# Altium footprint library HMC833.PcbLib: 1 footprints
Each footprint in its own frame and in the unit in brackets; x right, y up, seen from the top. Pads: shape width x height; smd on the part's side, far side on the other; paste and mask are expansions set on the pad; w line width, h text height; cw(c..) or ccw(c..) is an arc to the next point about the centre after c.
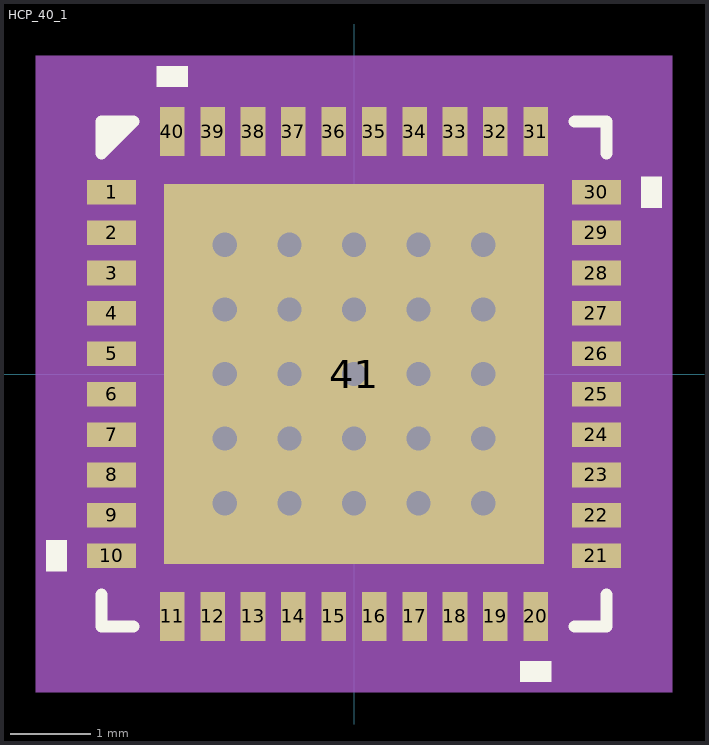
[diagram p0: the footprint, top view; thin cyan lines are the x and y axes]

## HCP_40_1 [mm]
pads (41):
  rect 0.605x0.305 smd: 1(-3.002,2.25) 2(-3.002,1.75) 3(-3.002,1.25) 4(-3.002,0.75) 5(-3.002,0.25) 6(-3.002,-0.25) 7(-3.002,-0.75) 8(-3.002,-1.25) 9(-3.002,-1.75) 10(-3.002,-2.25) 21(3.002,-2.25) 22(3.002,-1.75) 23(3.002,-1.25) 24(3.002,-0.75) 25(3.002,-0.25) 26(3.002,0.25) 27(3.002,0.75) 28(3.002,1.25) 29(3.002,1.75) 30(3.002,2.25)
  rect 0.305x0.605 smd: 11(-2.25,-3.002) 12(-1.75,-3.002) 13(-1.25,-3.002) 14(-0.75,-3.002) 15(-0.25,-3.002) 16(0.25,-3.002) 17(0.75,-3.002) 18(1.25,-3.002) 19(1.75,-3.002) 20(2.25,-3.002) 31(2.25,3.002) 32(1.75,3.002) 33(1.25,3.002) 34(0.75,3.002) 35(0.25,3.002) 36(-0.25,3.002) 37(-0.75,3.002) 38(-1.25,3.002) 39(-1.75,3.002) 40(-2.25,3.002)
  rect 4.7x4.7 smd paste-2.337: 41(0,0)
via 1.6,-1.6 diameter 0.6 hole 0.3
via 1.6,-0.8 diameter 0.6 hole 0.3
via 1.6,0.8 diameter 0.6 hole 0.3
via 1.6,0 diameter 0.6 hole 0.3
via 1.6,1.6 diameter 0.6 hole 0.3
via 0.8,1.6 diameter 0.6 hole 0.3
via 0.8,0 diameter 0.6 hole 0.3
via 0.8,0.8 diameter 0.6 hole 0.3
via 0,-0.8 diameter 0.6 hole 0.3
via 0.8,-0.8 diameter 0.6 hole 0.3
via 0,-1.6 diameter 0.6 hole 0.3
via 0.8,-1.6 diameter 0.6 hole 0.3
via -0.8,-1.6 diameter 0.6 hole 0.3
via -1.6,-1.6 diameter 0.6 hole 0.3
via -0.8,-0.8 diameter 0.6 hole 0.3
via -1.6,-0.8 diameter 0.6 hole 0.3
via -1.6,1.6 diameter 0.6 hole 0.3
via -0.8,1.6 diameter 0.6 hole 0.3
via 0,1.6 diameter 0.6 hole 0.3
via -1.6,0.8 diameter 0.6 hole 0.3
via -0.8,0.8 diameter 0.6 hole 0.3
via 0,0.8 diameter 0.6 hole 0.3
via -1.6,0 diameter 0.6 hole 0.3
via -0.8,0 diameter 0.6 hole 0.3
via 0,0 diameter 0.6 hole 0.3
Top Overlay:
  region: -3.127,3.127 -3.127,2.735 -2.735,3.127
  region: -2.06,3.559 -2.441,3.559 -2.441,3.813 -2.06,3.813
  region: 3.559,2.441 3.813,2.441 3.813,2.06 3.559,2.06
  region: 2.441,-3.559 2.06,-3.559 2.06,-3.813 2.441,-3.813
  region: -3.559,-2.06 -3.813,-2.06 -3.813,-2.441 -3.559,-2.441
  lines w0.152: -3.127,-2.735 -3.127,-3.127 -2.735,-3.127 ; 2.735,-3.127 3.127,-3.127 3.127,-2.735 ; 2.735,3.127 3.127,3.127 3.127,2.735 ; -3.127,2.735 -2.735,3.127 -3.127,3.127 -3.127,2.735
Top Paste:
  region: 2.25,-0.883 0.883,-0.883 0.883,-2.25 2.25,-2.25
  region: 2.25,0.683 0.883,0.683 0.883,-0.683 2.25,-0.683
  region: 2.25,2.25 0.883,2.25 0.883,0.883 2.25,0.883
  region: 0.683,-0.883 -0.683,-0.883 -0.683,-2.25 0.683,-2.25
  region: 0.683,0.683 -0.683,0.683 -0.683,-0.683 0.683,-0.683
  region: 0.683,2.25 -0.683,2.25 -0.683,0.883 0.683,0.883
  region: -0.883,-0.883 -2.25,-0.883 -2.25,-2.25 -0.883,-2.25
  region: -0.883,0.683 -2.25,0.683 -2.25,-0.683 -0.883,-0.683
  region: -0.883,2.25 -2.25,2.25 -2.25,0.883 -0.883,0.883
Mechanical 5:
  region: 3.94,-3.94 -3.94,-3.94 -3.94,3.94 3.94,3.94
Mechanical 13:
  lines w0.025: -3,1.73 -1.73,3 ; -3,-3 -3,3 3,3 3,-3 -3,-3 ; -3,-2.402 -3,-2.098 -3,-2.402 ; -3,-1.902 -3,-1.598 -3,-1.902 ; -3,-1.402 -3,-1.098 -3,-1.402 ; -3,-0.902 -3,-0.598 -3,-0.902 ; -3,-0.402 -3,-0.098 -3,-0.402 ; -3,0.098 -3,0.402 -3,0.098 ; -3,0.598 -3,0.902 -3,0.598 ; -3,1.098 -3,1.402 -3,1.098 ; -3,1.598 -3,1.902 -3,1.598 ; -3,2.098 -3,2.402 -3,2.098 ; -2.402,-3 -2.098,-3 -2.402,-3 ; -2.402,3 -2.098,3 -2.402,3 ; -1.902,-3 -1.598,-3 -1.902,-3 ; -1.902,3 -1.598,3 -1.902,3 ; -1.402,-3 -1.098,-3 -1.402,-3 ; -1.402,3 -1.098,3 -1.402,3 ; -0.902,-3 -0.598,-3 -0.902,-3 ; -0.902,3 -0.598,3 -0.902,3 ; -0.402,-3 -0.098,-3 -0.402,-3 ; -0.402,3 -0.098,3 -0.402,3 ; 0.098,-3 0.402,-3 0.098,-3 ; 0.098,3 0.402,3 0.098,3 ; 0.598,-3 0.902,-3 0.598,-3 ; 0.598,3 0.902,3 0.598,3 ; 1.098,-3 1.402,-3 1.098,-3 ; 1.098,3 1.402,3 1.098,3 ; 1.598,-3 1.902,-3 1.598,-3 ; 1.598,3 1.902,3 1.598,3 ; 2.098,-3 2.402,-3 2.098,-3 ; 2.098,3 2.402,3 2.098,3 ; 3,-2.402 3,-2.098 3,-2.402 ; 3,-1.902 3,-1.598 3,-1.902 ; 3,-1.402 3,-1.098 3,-1.402 ; 3,-0.902 3,-0.598 3,-0.902 ; 3,-0.402 3,-0.098 3,-0.402 ; 3,0.098 3,0.402 3,0.098 ; 3,0.598 3,0.902 3,0.598 ; 3,1.098 3,1.402 3,1.098 ; 3,1.598 3,1.902 3,1.598 ; 3,2.098 3,2.402 3,2.098
  text "*" at -3.017,1.865 h1.27
Mechanical 15:
  region: -2.5,-3.254 -3.254,-3.254 -3.254,-2.5 -3.404,-2.5 -3.404,2.5 -3.254,2.5 -3.254,3.254 -2.5,3.254 -2.5,3.404 2.5,3.404 2.5,3.254 3.254,3.254 3.254,2.5 3.404,2.5 3.404,-2.5 3.254,-2.5 3.254,-3.254 2.5,-3.254 2.5,-3.404 -2.5,-3.404
  lines w0.152: -3.404,-2.5 -3.404,2.5 -3.254,2.5 -3.254,3.254 -2.5,3.254 -2.5,3.404 2.5,3.404 2.5,3.254 3.254,3.254 3.254,2.5 3.404,2.5 3.404,-2.5 3.254,-2.5 3.254,-3.254 2.5,-3.254 2.5,-3.404 -2.5,-3.404 -2.5,-3.254 -3.254,-3.254 -3.254,-2.5 -3.404,-2.5
3D body "HCP_40_1.step": height 0.97, standoff 0, extent -3,-3 3,3